# Altium schematic symbol library LMK1D2104.SchLib: 1 symbol
Pins are listed as number, name and electrical type; pins without a type are passive.

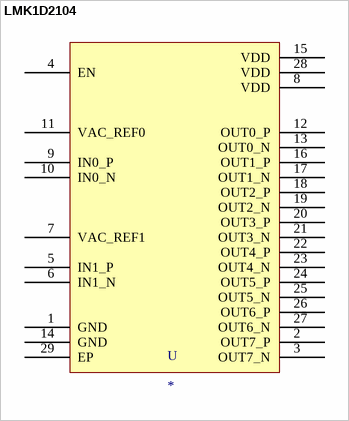
[diagram p0: symbol LMK1D2104]

## LMK1D2104
designator U
Dual 1:4 LVDS buffer; Manufacturer: Texas Instruments; Part Number: LMK1D2104
footprint LMK1D2104
pins: 1 GND, 2 OUT7_P, 3 OUT7_N, 4 EN, 5 IN1_P, 6 IN1_N, 7 VAC_REF1, 8 VDD, 9 IN0_P, 10 IN0_N, 11 VAC_REF0, 12 OUT0_P, 13 OUT0_N, 14 GND, 15 VDD, 16 OUT1_P, 17 OUT1_N, 18 OUT2_P, 19 OUT2_N, 20 OUT3_P, 21 OUT3_N, 22 OUT4_P, 23 OUT4_N, 24 OUT5_P, 25 OUT5_N, 26 OUT6_P, 27 OUT6_N, 28 VDD, 29 EP